# EAGLE library part ORM-2088-RGB-5 (library LED)
ORM 2088RGB-5 8x8 LED RGB Matrix
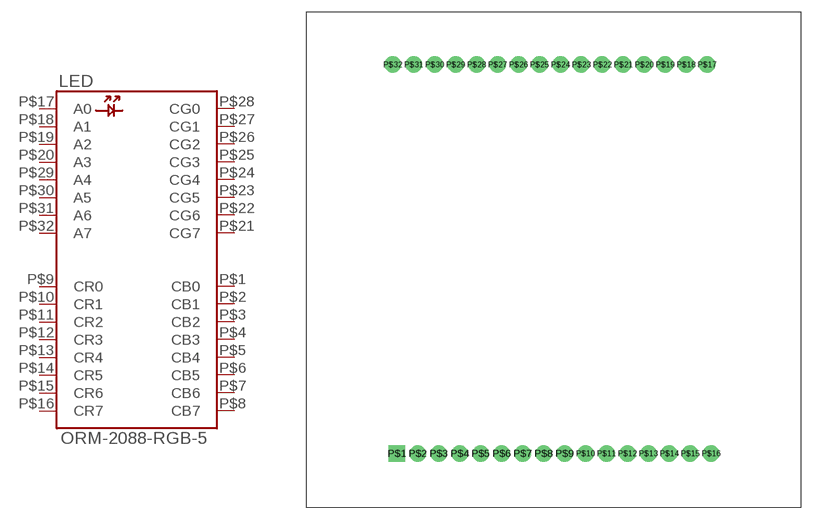
[diagram p2: symbol with the pads of ORM-2088-RGB-5; footprint ORM-2088-RGB-5]

Designator prefix LED

## ORM-2088-RGB-5  [ORM-2088-RGB-5]
P$1  CB0
P$2  CB1
P$3  CB2
P$4  CB3
P$5  CB4
P$6  CB5
P$7  CB6
P$8  CB7
P$9  CR0
P$10  CR1
P$11  CR2
P$12  CR3
P$13  CR4
P$14  CR5
P$15  CR6
P$16  CR7
P$17  A0
P$18  A1
P$19  A2
P$20  A3
P$21  CG7
P$22  CG6
P$23  CG5
P$24  CG4
P$25  CG3
P$26  CG2
P$27  CG1
P$28  CG0
P$29  A4
P$30  A5
P$31  A6
P$32  A7

## Footprint ORM-2088-RGB-5 (pad centres in mm)
drill 0.8 pad 2 square: P$1 -19,-23.5
drill 0.8 pad 2: P$2 -16.46,-23.5; P$3 -13.92,-23.5; P$4 -11.38,-23.5; P$5 -8.84,-23.5; P$6 -6.3,-23.5; P$7 -3.76,-23.5; P$8 -1.22,-23.5; P$9 1.32,-23.5; P$10 3.86,-23.5; P$11 6.4,-23.5; P$12 8.94,-23.5; P$13 11.48,-23.5; P$14 14.02,-23.5; P$15 16.56,-23.5; P$16 19.1,-23.5; P$17 18.6,23.66; P$18 16.06,23.66; P$19 13.52,23.66; P$20 10.98,23.66; P$21 8.44,23.66; P$22 5.9,23.66; P$23 3.36,23.66; P$24 0.82,23.66; P$25 -1.72,23.66; P$26 -4.26,23.66; P$27 -6.8,23.66; P$28 -9.34,23.66; P$29 -11.88,23.66; P$30 -14.42,23.66; P$31 -16.96,23.66; P$32 -19.5,23.66